# Altium schematic symbol library Relays_EM.SchLib: 3 symbols
Pins are listed as number, name and electrical type; pins without a type are passive.

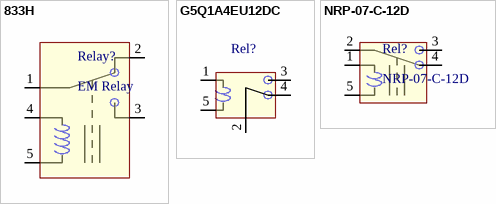
[diagram p0: symbols 833H to NRP-07-C-12D]

## 833H
designator Relay?, comment EM Relay
Electromagnetic relay; Datasheet: http://lib.chipdip.ru/156/DOC000156753.pdf
footprint 833H Relay (EM RELAY)
pins: 1, 2, 3, 4, 5

## G5Q1A4EU12DC
designator Rel?  (value not drawn)
12V 2A Compact EM Relay; Current (commutated): 10A; AC Voltage (commutated): 250V; Power (coil): 0.2W; DC Voltage (commutated): 24V; Voltage (coil): 12V
footprint G5Q-EU (G5Q-EU Relays footprint)
pins: 1 Coil1, 2, 3, 4, 5 Coil2

## NRP-07-C-12D
designator Rel?
12V 2A Compact EM Relay; Voltage (commutated): 250V; Power (coil): 0.2W; Voltage (coil): 12V; Current (commutated): 2A
pins: 1 Coil1, 2, 3, 4, 5 Coil2